# Altium schematic symbol library CATS-Vega.SCHLIB: 64 symbols
Pins are listed as number, name and electrical type; pins without a type are passive.

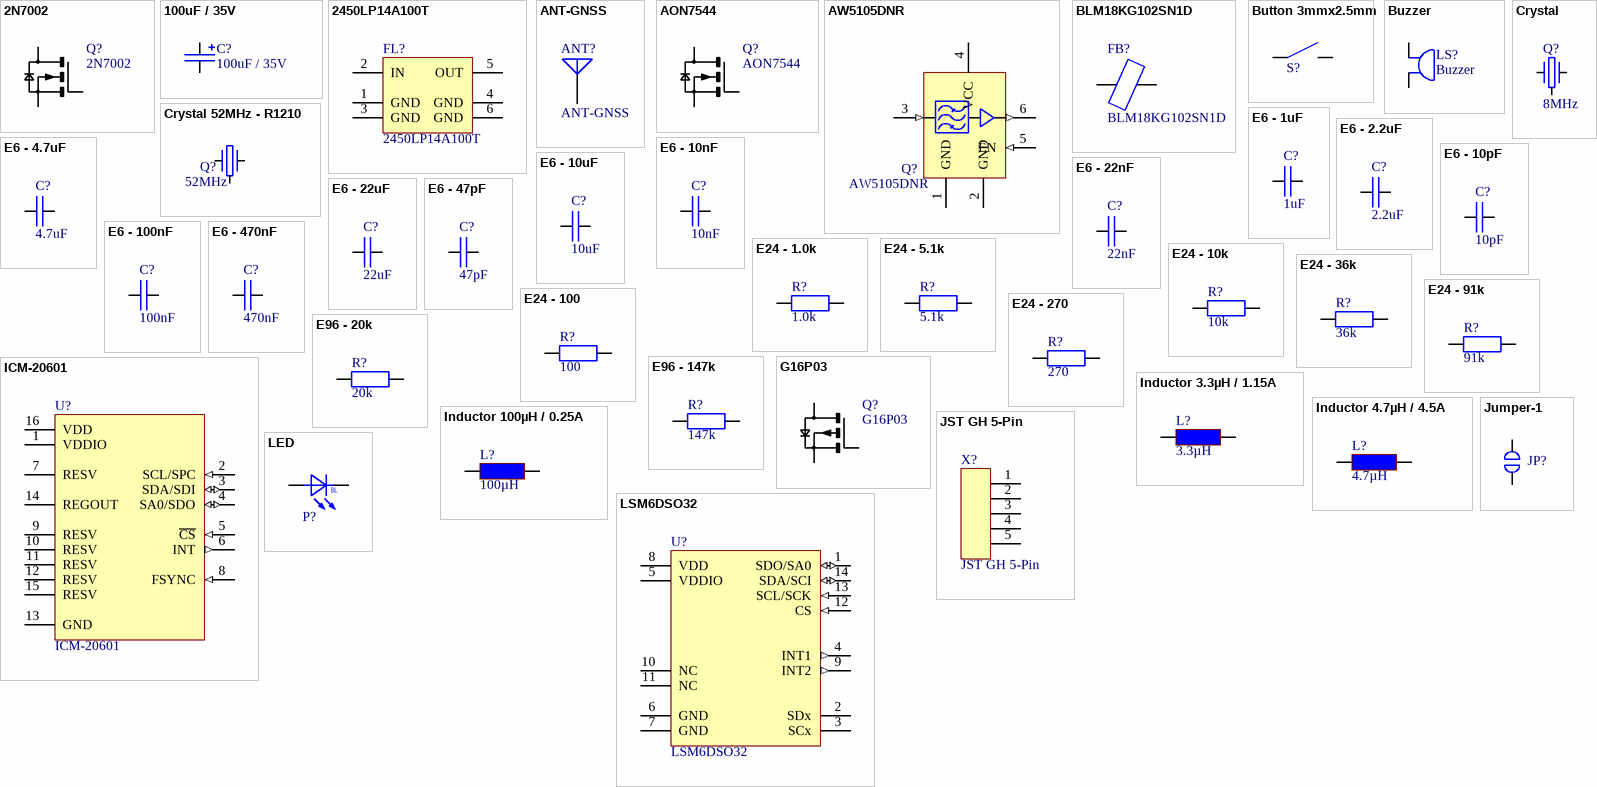
[diagram p0: symbols 2N7002 to LSM6DSO32]

## 2N7002
designator Q?
MOSFET N-Channel 20V / 115mA; Item Description: N-Channel MOSFET; Digikey: 2N7002NCT-ND; Price: 0.32; ComponentLink1Description: Datasheet; ComponentLink1URL: https://www.onsemi.com/pub/Collateral/NDS7002A-D.PDF; JLC: C15127
footprint SMD MOSFET SOT-23
pins: D, G, S
2 alternate drawings of the same symbol

## 100uF / 35V
designator C?
7.7mm 6.3mm 50V 47uF 2000hrs 105℃ -55℃~+105℃ SMD,6.3x7.7mm Aluminum Electrolytic Capacitors - SMD ROHS; ComponentLink1Description: Datasheet; ComponentLink1URL: https://datasheet.lcsc.com/lcsc/1809301215_Nichicon-UWT1V101MCL1GS_C125975.pdf; JLC: C176666
footprint SMD Elko 6.3x7.7
pins: M -, P +

## 2450LP14A100T
designator FL?
2.45GHz Center Frequency Low Pass RF Filter (Radio Frequency) 100MHz Bandwidth 0.5dB 0603 (1608 Metric), 6 PC Pad; ComponentLink1Description: Datasheet; ComponentLink1URL: https://www.johansontechnology.com/datasheets/2450LP14A100/2450LP14A100.pdf; Digikey: 712-1129-2-ND
footprint SMD Filter 2450LP14A100T
pins: 1 GND, 2 IN, 3 GND, 4 GND, 5 OUT, 6 GND

## ANT-GNSS
designator ANT?
1.575GHz GPS Ceramic Patch RF Antenna 1.573GHz ~ 1.577GHz 3.3dBic Pin Adhesive; ComponentLink1Description: Datasheet; ComponentLink1URL: https://abracon.com/patchantenna/APAE1575R1820ABDC1-T.pdf; Digikey: 535-11944-ND
footprint THT Antenna GNSS 18x18
pins: 1

## AON7544
designator Q?
N-Channel 30V 30A Surface Mount 8-DFN (3x3); ComponentLink1Description: Datasheet; ComponentLink1URL: https://datasheet.lcsc.com/lcsc/1912111437_Alpha---Omega-Semicon-AON7544_C315567.pdf; JLC: C315567
footprint SMD MOSFET DFN 3x3 EP
pins: D, G, S

## AW5105DNR
designator Q?
BDS/GPS/GNSS INTEGRATED FRONT-END MODULE WITH / LOW NOISE AMPLIFIER AND FILTER; ComponentLink1Description: Datasheet; ComponentLink1URL: https://datasheet.lcsc.com/lcsc/2008041805_AWINIC-Shanghai-Awinic-Tech-AW5105DNR_C506193.pdf; JLC: C506193
footprint SMD LNA AW5105DNR
pins: 1 GND, 2 GND, 3 (in), 4 VCC, 5 EN (in), 6 EN (out)

## BLM18KG102SN1D
designator FB?
1 kOhms @ 100MHz 1 Power Line Ferrite Bead 0603 (1608 Metric) 1A 200mOhm; ComponentLink1Description: Datasheet; ComponentLink1URL: https://www.murata.com/en-us/products/productdata/8796738650142/ENFA0003.pdf; Digikey: 490-17349-1-ND; JLC: C42102
footprint SMD Ferrite Bead 0603
pins: 1, 2

## Button 3mmx2.5mm
designator S?, comment SMD-Button  (value not drawn)
Button SPST; JLC: C128937; Digikey: SW1020TR-ND
footprint SMD Button 2.5x3x1.2 (SMD_LED_RED)
pins: 1, 2

## Buzzer
designator LS?
Buzzers Indicator, Internally Driven Piezo 12V 10mA 3kHz 100dB @ 12V, 10cm Through Hole PC Pins; Digikey: 2104-IP303012-1-ND; ComponentLink1Description: Datasheet; ComponentLink1URL: https://dbunlimitedco.com/images/product_images/2D-Drawings/IP303012-1.pdf
footprint THT BUZZER IP303012
footprint SMD BUZZER CMT-8504
pins: 1, 2

## Crystal
designator Q?, comment 8MHz
SMD Crystal Resonators 8MHz ±10ppm SMD,3.2x2.5mm; Digikey: 535-15255-1-ND; JLC: C2682775
footprint SMD Crystal 3.2X2.5X0.8 (SMD_LED_RED)
pins: 1, 2, 3 (power)
2 alternate drawings of the same symbol

## Crystal 52MHz - R1210
designator Q?, comment 52MHz
52 MHz ±7ppm Crystal 5pF 100 Ohms 4-SMD, No Lead; ComponentLink1Description: Datasheet; ComponentLink1URL: https://www.diodes.com/assets/Datasheets/FL.pdf; Digikey: 2151-R1210-52.000-5-F-0710-TR-ND
footprint SMD Crystal 1.2X1.0X0.35 (SMD_LED_RED)
pins: 1, 2, 3 (power)

## E6 - 1uF
designator C?, comment 1uF
SMD Ceramic Capacitor E6; Unit Price: 0.01; Number: -; Supplier: -; JLC: C52923
footprint SMD Keramikkondensator 0402
footprint SMD Keramikkondensator 0603
footprint SMD Keramikkondensator 0805
footprint SMD Keramikkondensator 1206
footprint SMD Keramikkondensator 1210 (Chip Resistor; Body 3.2 x 1.6 mm (LxW typ))
footprint SMD Keramikkondensator 1812
footprint SMD Keramikkondensator 2211
footprint SMD Keramikkondensator 2220
footprint SMD Keramikkondesnator 2220
pins: 1, 2
1 alternate drawing of the same symbol

## E6 - 2.2uF
designator C?, comment 2.2uF
SMD Ceramic Capacitor E6; Unit Price: 0.01; Number: -; Supplier: -; JLC: C12530
footprint SMD Keramikkondensator 0402
footprint SMD Keramikkondensator 0603
footprint SMD Keramikkondensator 0805
footprint SMD Keramikkondensator 1206
footprint SMD Keramikkondensator 1210 (Chip Resistor; Body 3.2 x 1.6 mm (LxW typ))
footprint SMD Keramikkondensator 1812
footprint SMD Keramikkondensator 2211
footprint SMD Keramikkondensator 2220
footprint SMD Keramikkondesnator 2220
pins: 1, 2
1 alternate drawing of the same symbol

## E6 - 4.7uF
designator C?, comment 4.7uF
SMD Ceramic Capacitor E6; Unit Price: 0.01; Number: -; Supplier: -; JLC: C23733
footprint SMD Keramikkondensator 0402
footprint SMD Keramikkondensator 0603
footprint SMD Keramikkondensator 0805
footprint SMD Keramikkondensator 1206
footprint SMD Keramikkondensator 1210 (Chip Resistor; Body 3.2 x 1.6 mm (LxW typ))
footprint SMD Keramikkondensator 1812
footprint SMD Keramikkondensator 2211
footprint SMD Keramikkondensator 2220
footprint SMD Keramikkondesnator 2220
pins: 1, 2
1 alternate drawing of the same symbol

## E6 - 10nF
designator C?, comment 10nF
SMD Ceramic Capacitor E6; Unit Price: 0.01; Number: -; Supplier: -; JLC: C15195
footprint SMD Keramikkondensator 0402
footprint SMD Keramikkondensator 0603
footprint SMD Keramikkondensator 0805
footprint SMD Keramikkondensator 1206
footprint SMD Keramikkondensator 1210 (Chip Resistor; Body 3.2 x 1.6 mm (LxW typ))
footprint SMD Keramikkondensator 1812
footprint SMD Keramikkondensator 2211
footprint SMD Keramikkondensator 2220
footprint SMD Keramikkondesnator 2220
pins: 1, 2
1 alternate drawing of the same symbol

## E6 - 10pF
designator C?, comment 10pF
SMD Ceramic Capacitor E6; Unit Price: 0.01; Number: -; Supplier: -; JLC: C32949
footprint SMD Keramikkondensator 0402
footprint SMD Keramikkondensator 0603
footprint SMD Keramikkondensator 0805
footprint SMD Keramikkondensator 1206
footprint SMD Keramikkondensator 1210 (Chip Resistor; Body 3.2 x 1.6 mm (LxW typ))
footprint SMD Keramikkondensator 1812
footprint SMD Keramikkondensator 2211
footprint SMD Keramikkondensator 2220
footprint SMD Keramikkondesnator 2220
pins: 1, 2
1 alternate drawing of the same symbol

## E6 - 10uF
designator C?, comment 10uF
SMD Ceramic Capacitor E6; Unit Price: 0.01; Number: -; Supplier: -; JLC: C96446
footprint SMD Keramikkondensator 0402
footprint SMD Keramikkondensator 0603
footprint SMD Keramikkondensator 0805
footprint SMD Keramikkondensator 1206
footprint SMD Keramikkondensator 1210 (Chip Resistor; Body 3.2 x 1.6 mm (LxW typ))
footprint SMD Keramikkondensator 1812
footprint SMD Keramikkondensator 2211
footprint SMD Keramikkondensator 2220
footprint SMD Keramikkondesnator 2220
pins: 1, 2
1 alternate drawing of the same symbol

## E6 - 22nF
designator C?, comment 22nF
SMD Ceramic Capacitor E6; Unit Price: 0.01; Number: -; Supplier: -; JLC: C1532
footprint SMD Keramikkondensator 0402
footprint SMD Keramikkondensator 0603
footprint SMD Keramikkondensator 0805
footprint SMD Keramikkondensator 1206
footprint SMD Keramikkondensator 1210 (Chip Resistor; Body 3.2 x 1.6 mm (LxW typ))
footprint SMD Keramikkondensator 1812
footprint SMD Keramikkondensator 2211
footprint SMD Keramikkondensator 2220
footprint SMD Keramikkondesnator 2220
pins: 1, 2
1 alternate drawing of the same symbol

## E6 - 22uF
designator C?, comment 22uF
SMD Ceramic Capacitor E6; Unit Price: 0.01; Number: -; Supplier: -; JLC: C45783
footprint SMD Keramikkondensator 0402
footprint SMD Keramikkondensator 0603
footprint SMD Keramikkondensator 0805
footprint SMD Keramikkondensator 1206
footprint SMD Keramikkondensator 1210 (Chip Resistor; Body 3.2 x 1.6 mm (LxW typ))
footprint SMD Keramikkondensator 1812
footprint SMD Keramikkondensator 2211
footprint SMD Keramikkondensator 2220
footprint SMD Keramikkondesnator 2220
pins: 1, 2
1 alternate drawing of the same symbol

## E6 - 47pF
designator C?, comment 47pF
SMD Ceramic Capacitor E6; Unit Price: 0.01; Number: -; Supplier: -; JLC: C1567
footprint SMD Keramikkondensator 0402
footprint SMD Keramikkondensator 0603
footprint SMD Keramikkondensator 0805
footprint SMD Keramikkondensator 1206
footprint SMD Keramikkondensator 1210 (Chip Resistor; Body 3.2 x 1.6 mm (LxW typ))
footprint SMD Keramikkondensator 1812
footprint SMD Keramikkondensator 2211
footprint SMD Keramikkondensator 2220
footprint SMD Keramikkondesnator 2220
pins: 1, 2
1 alternate drawing of the same symbol

## E6 - 100nF
designator C?, comment 100nF
SMD Ceramic Capacitor E6; Unit Price: 0.01; Number: -; Supplier: -; JLC: C307331
footprint SMD Keramikkondensator 0402
footprint SMD Keramikkondensator 0603
footprint SMD Keramikkondensator 0805
footprint SMD Keramikkondensator 1206
footprint SMD Keramikkondensator 1210 (Chip Resistor; Body 3.2 x 1.6 mm (LxW typ))
footprint SMD Keramikkondensator 1812
footprint SMD Keramikkondensator 2211
footprint SMD Keramikkondensator 2220
footprint SMD Keramikkondesnator 2220
pins: 1, 2
1 alternate drawing of the same symbol

## E6 - 470nF
designator C?, comment 470nF
SMD Ceramic Capacitor E6; Unit Price: 0.01; Number: -; Supplier: -; JLC: C47339
footprint SMD Keramikkondensator 0402
footprint SMD Keramikkondensator 0603
footprint SMD Keramikkondensator 0805
footprint SMD Keramikkondensator 1206
footprint SMD Keramikkondensator 1210 (Chip Resistor; Body 3.2 x 1.6 mm (LxW typ))
footprint SMD Keramikkondensator 1812
footprint SMD Keramikkondensator 2211
footprint SMD Keramikkondensator 2220
footprint SMD Keramikkondesnator 2220
pins: 1, 2
1 alternate drawing of the same symbol

## E24 - 1.0k
designator R?, comment 1.0k
SMD Chip Resistor E24; Unit Price: 0.01; Number: -; Supplier: -; JLC: C11702
footprint SMD Widerstand 0402
footprint SMD Widerstand 0603
footprint SMD Widerstand 0805
footprint SMD Widerstand 1206
pins: 1, 2
1 alternate drawing of the same symbol

## E24 - 5.1k
designator R?, comment 5.1k
SMD Chip Resistor E24; Unit Price: 0.01; Number: -; Supplier: -; JLC: C25905
footprint SMD Widerstand 0402
footprint SMD Widerstand 0603
footprint SMD Widerstand 0805
footprint SMD Widerstand 1206
pins: 1, 2
1 alternate drawing of the same symbol

## E24 - 10k
designator R?, comment 10k
SMD Chip Resistor E24; Unit Price: 0.01; Number: -; Supplier: -; JLC: C25744
footprint SMD Widerstand 0402
footprint SMD Widerstand 0603
footprint SMD Widerstand 0805
footprint SMD Widerstand 1206
pins: 1, 2
1 alternate drawing of the same symbol

## E24 - 36k
designator R?, comment 36k
SMD Chip Resistor E24; Unit Price: 0.01; Number: -; Supplier: -; JLC: C43676
footprint SMD Widerstand 0402
footprint SMD Widerstand 0603
footprint SMD Widerstand 0805
footprint SMD Widerstand 1206
pins: 1, 2
1 alternate drawing of the same symbol

## E24 - 91k
designator R?, comment 91k
SMD Chip Resistor E24; Unit Price: 0.01; Number: -; Supplier: -; JLC: C4147
footprint SMD Widerstand 0402
footprint SMD Widerstand 0603
footprint SMD Widerstand 0805
footprint SMD Widerstand 1206
pins: 1, 2
1 alternate drawing of the same symbol

## E24 - 100
designator R?, comment 100
SMD Chip Resistor E24; Unit Price: 0.01; Number: -; Supplier: -; JLC: C25076
footprint SMD Widerstand 0402
footprint SMD Widerstand 0603
footprint SMD Widerstand 0805
footprint SMD Widerstand 1206
pins: 1, 2
1 alternate drawing of the same symbol

## E24 - 270
designator R?, comment 270
SMD Chip Resistor E24; Unit Price: 0.01; Number: -; Supplier: -; JLC: C25099
footprint SMD Widerstand 0402
footprint SMD Widerstand 0603
footprint SMD Widerstand 0805
footprint SMD Widerstand 1206
pins: 1, 2
1 alternate drawing of the same symbol

## E96 - 20k
designator R?, comment 20k
SMD Chip Resistor E96; Unit Price: 0.01; Number: -; Supplier: -; JLC: C25765
footprint SMD Widerstand 0402
footprint SMD Widerstand 0603
footprint SMD Widerstand 0805
footprint SMD Widerstand 1206
pins: 1, 2
1 alternate drawing of the same symbol

## E96 - 147k
designator R?, comment 147k
SMD Chip Resistor E96; Unit Price: 0.01; Number: -; Supplier: -; JLC: C64171
footprint SMD Widerstand 0402
footprint SMD Widerstand 0603
footprint SMD Widerstand 0805
footprint SMD Widerstand 1206
pins: 1, 2
1 alternate drawing of the same symbol

## G16P03
designator Q?
30V 16A 35W; ComponentLink1Description: Datasheet; ComponentLink1URL: https://datasheet.lcsc.com/lcsc/1809251724_GOFORD-G16P03_C193982.pdf; JLC: C193982
footprint SMD MOSFET DFN 3x3 EP
pins: D, G, S

## ICM-20601
designator U?
World’s First Wide-Range 6-Axis MotionTracking Device for High Speed Applications /; ComponentLink1Description: Datasheet; ComponentLink1URL: https://www.invensense.com/wp-content/uploads/2015/12/DS-000184-ICM-20600-v1.0.pdf; Digikey: 1428-1058-1-ND
footprint SMD IC LGA-16 5/3
pins: 1 VDDIO (power), 2 SCL/SPC (in), 3 SDA/SDI (io), 4 SA0/SDO (io), 5 ~{CS} (in), 6 INT (out), 7 RESV, 8 FSYNC (in), 9 RESV, 10 RESV, 11 RESV, 12 RESV, 13 GND (power), 14 REGOUT (power), 15 RESV, 16 VDD (power)

## Inductor 3.3µH / 1.15A
designator L?, comment 3.3µH
1.15A 3.3uH ±20% 144mΩ SMD Power Inductors; Digikey: 732-5680-2-ND; ComponentLink1Description: Datasheet; ComponentLink1URL: https://datasheet.lcsc.com/lcsc/2110081330_Sunlord-SPH252012H3R3MT_C98379.pdf; JLC: C98379
footprint SMD Inductor 2x2.5x1.2
pins: 1, 2

## Inductor 4.7µH / 4.5A
designator L?, comment 4.7µH
4.7 µH Shielded Molded Inductor 4.5 A 60mOhm Max Nonstandard; Digikey: 541-1238-2-ND; ComponentLink1Description: Datasheet; ComponentLink1URL: https://www.vishay.com/docs/34260/ihlp2020cz11.pdf; JLC: C408410
footprint SMD Inductor 5.5x5.2x3
pins: 1, 2

## Inductor 100µH / 0.25A
designator L?, comment 100µH
0.25A 100µH ±20% 144mΩ SMD Power Inductors; ComponentLink1Description: Datasheet; ComponentLink1URL: https://datasheet.lcsc.com/lcsc/2110081330_Sunlord-SPH252012H3R3MT_C98379.pdf; JLC: C76822
footprint SMD Inductor 1812
pins: 1, 2

## JST GH 5-Pin
designator X?
Connector Header Surface Mount, Right Angle 4 position 0.049" (1.25mm); ComponentLink1Description: Datasheet; ComponentLink1URL: https://www.jst-mfg.com/product/pdf/eng/eGH.pdf
footprint SMD Connector JST GH-5
pins: 1, 2, 3, 4, 5

## Jumper-1
designator JP?, comment Jumper  (value not drawn)  (no BOM)
Single Position Jumper
footprint THT Jumper
footprint SMD Solder Jumper 1x2mm (SOT-223/SC-73; 4 Leads; Body 6.7 x 7.3 mm, inc. leads (LxW max))
pins: 1, 2

## LED
designator P?  (value not drawn)
Color LED
footprint SMD LED 0603 (SMD_LED_RED)
pins: A, K
3 alternate drawings of the same symbol
text: BL

## LSM6DSO32
designator U?
iNEMO inertial module / ±4/±8/±16/±32 g / ±125/±250/±500/±1000/±2000 dps; ComponentLink1Description: Datasheet; ComponentLink1URL: https://www.st.com/resource/en/datasheet/lsm6dso32.pdf; Digikey: 497-LSM6DSO32CT-ND; Mouser: 511-LSM6DSO32TR; Farnell: 3527117
footprint SMD IC LGA-14
pins: 1 SDO/SA0 (io), 2 SDx, 3 SCx, 4 INT1 (out), 5 VDDIO, 6 GND, 7 GND, 8 VDD, 9 INT2 (out), 10 NC, 11 NC, 12 CS (in), 13 SCL/SCK (in), 14 SDA/SCI (io)

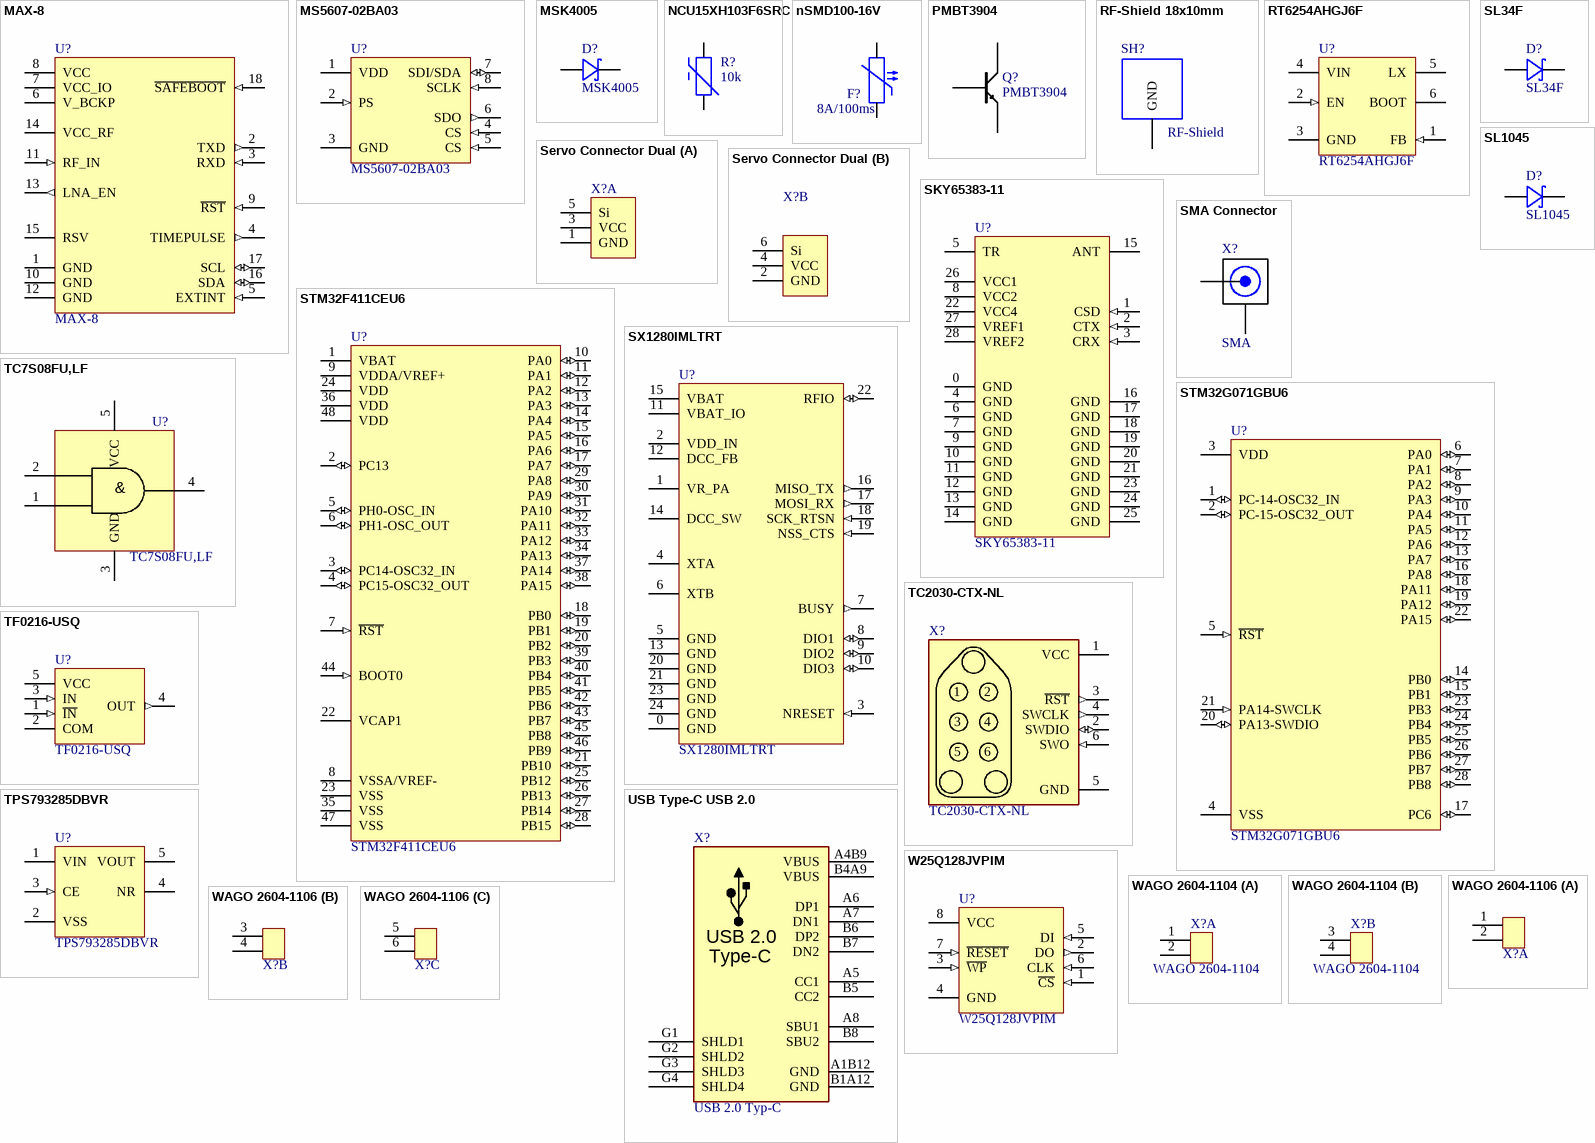
[diagram p1: symbols MAX-8 to WAGO 2604-1106]

## MAX-8
designator U?
u-blox 8 GNSS modules; ComponentLink1Description: Datasheet; ComponentLink1URL: https://www.u-blox.com/sites/default/files/MAX-8_DataSheet_%28UBX-16000093%29.pdf; JLC: C90770; Digikey: 672-MAX-8C-0TR-ND
footprint SMD MAX-8
pins: 1 GND, 2 TXD (out), 3 RXD (in), 4 TIMEPULSE (out), 5 EXTINT (in), 6 V_BCKP, 7 VCC_IO, 8 VCC, 9 ~{RST} (in), 10 GND, 11 RF_IN (in), 12 GND, 13 LNA_EN (out), 14 VCC_RF, 15 RSV, 16 SDA (io), 17 SCL (io), 18 ~{SAFEBOOT} (in)

## MS5607-02BA03
designator U?
Barometric Pressure Sensor, with stainless / steel cap; ComponentLink1Description: Datasheet; ComponentLink1URL: https://www.te.com/commerce/DocumentDelivery/DDEController?Action=srchrtrv&DocNm=MS5607-02BA03&DocType=Data+Sheet&DocLang=English; Digikey: 223-1198-1-ND
footprint SMD IC BARO MS5607
pins: 1 VDD, 2 PS (in), 3 GND, 4 CS (in), 5 CS (in), 6 SDO (out), 7 SDI/SDA (io), 8 SCLK (in)

## MSK4005
designator D?
SOD-523 Schottky Barrier Diode; ComponentLink1Description: Datasheet; ComponentLink1URL: https://datasheet.lcsc.com/lcsc/1912111437_Shikues-MSK4005_C345957.pdf; JLC: C345957
footprint SMD Diode SOD-523 (SM LED; 2 Flat Leads)
pins: A, K

## NCU15XH103F6SRC
designator R?, comment 10k
10kΩ -40℃~+125℃ 3455K 0.1mA 3434K ±1% 3380K ±1% 0402 NTC Thermistors; ComponentLink1Description: Datasheet; ComponentLink1URL: https://datasheet.lcsc.com/lcsc/1912111437_Murata-Electronics-NCU15XH103F6SRC_C333993.pdf; JLC: C333993
footprint SMD Ferrite Bead 0402
pins: 1, 2

## nSMD100-16V
designator F?, comment 8A/100ms
16V 1A 100A 1.8A 1206 Resettable; JLC: C70082; ComponentLink1Description: Datasheet; ComponentLink1URL: https://datasheet.lcsc.com/lcsc/1810261625_TECHFUSE-nSMD100-16V_C70082.pdf
footprint SMD PPTC-Fuse 1206
pins: 1, 2

## PMBT3904
designator Q?
40 V, 200 mA NPN switching transisto; ComponentLink1Description: Datasheet; ComponentLink1URL: https://datasheet.lcsc.com/lcsc/2105201004_Nexperia-PMBT3904-215_C8667.pdf; JLC: C8667
footprint SMD Transistor SOT-23
pins: B, C, E

## RF-Shield 18x10mm
designator SH?, comment RF-Shield
RF Shield Shield, 1-Piece 0.413" (10.50mm) X 0.720" (18.30mm) Non-Vented Solder; ComponentLink1Description: Datasheet; ComponentLink1URL: https://www.masach.com/media/catalog/product/file/MS183-10.pdf; Digikey: 2333-MS183-10S-ND
footprint SMD Shield MS183-10
pins: 1 GND

## RT6254AHGJ6F
designator U?
Buck Switching Regulator IC Positive Adjustable 0.6V 1 Output 4A SOT-23-6 Thin, TSOT-23-6; ComponentLink1Description: Datasheet; ComponentLink1URL: https://www.richtek.com/assets/product_file/RT6254A=RT6254B/DS6254AB-02.pdf; Digikey: RT6255AHGJ6FCT-ND
footprint SMD IC TSOT-23-6 (SOT-223/SC-73; 4 Leads; Body 6.7 x 7.3 mm, inc. leads (LxW max))
pins: 1 FB (in), 2 EN (in), 3 GND, 4 VIN, 5 LX, 6 BOOT

## Servo Connector Dual
designator X?, comment Servo Connector  (value not drawn)
6 Pin header for PWM servos
footprint THT Stiftleiste 6-Pol (2x3) 90°
part A pins: 1 GND, 3 VCC, 5 Si
part B pins: 2 GND, 4 VCC, 6 Si

## SKY65383-11
designator U?
2400 to 2483 MHz Transmit/Receive / Front-End Module +30dBm; ComponentLink1Description: Datasheet; ComponentLink1URL: https://www.skyworksinc.com/-/media/SkyWorks/Documents/Products/2901-3000/SKY65383-11_202668G.pdf; Digikey: 863-1798-1-ND
footprint SMD IC 28-MCM
pins: 0 GND, 1 CSD (in), 2 CTX (in), 3 CRX (in), 4 GND, 5 TR, 6 GND, 7 GND, 8 VCC2, 9 GND, 10 GND, 11 GND, 12 GND, 13 GND, 14 GND, 15 ANT, 16 GND, 17 GND, 18 GND, 19 GND, 20 GND, 21 GND, 22 VCC4, 23 GND, 24 GND, 25 GND, 26 VCC1, 27 VREF1, 28 VREF2

## SL34F
designator D?
3A SMAF Schottky Barrier Diode; JLC: C60396; ComponentLink1Description: Datasheet; ComponentLink1URL: https://datasheet.lcsc.com/lcsc/1809211527_MDD-Microdiode-Electronics--SL34F_C113938.pdf
footprint SMD Diode SMAF
pins: A, K

## SL1045
designator D?
45V 470mV@10A 10A TO-277 Schottky Barrier Diodes; ComponentLink1Description: Datasheet; ComponentLink1URL: https://datasheet.lcsc.com/lcsc/1810252210_MDD-Microdiode-Electronics--SL1045_C65021.pdf; JLC: C113945
footprint SMD Diode TO-277
pins: A, K

## SMA Connector
designator X?, comment SMA
Female SMA Connector THT; Digikey: 931-1361-ND
footprint THT Buchse SMA Female
pins: 1 RF, 2 RF

## STM32F411CEU6
designator U?
ARM® Cortex®-M4 series Microcontroller IC 32-Bit 100MHz 512KB (512K x 8) FLASH 48-UFQFPN (7x7); Digikey: 497-14907-ND; JLC: C60420; ComponentLink1Description: Datasheet; ComponentLink1URL: https://datasheet.lcsc.com/lcsc/1809291612_STMicroelectronics-STM32F411CEU6_C60420.pdf
footprint SMD IC QFN-48 (QFN, 48-Leads, Body 7x7mm, Pitch 0.5mm, IPC Medium Density)
pins: 1 VBAT, 2 PC13 (io), 3 PC14-OSC32_IN (io), 4 PC15-OSC32_OUT (io), 5 PH0-OSC_IN (io), 6 PH1-OSC_OUT (io), 7 ~{RST} (in), 8 VSSA/VREF-, 9 VDDA/VREF+, 10 PA0 (io), 11 PA1 (io), 12 PA2 (io), 13 PA3 (io), 14 PA4 (io), 15 PA5 (io), 16 PA6 (io), 17 PA7 (io), 18 PB0 (io), 19 PB1 (io), 20 PB2 (io), 21 PB10 (io), 22 VCAP1, 23 VSS, 24 VDD, 25 PB12 (io), 26 PB13 (io), 27 PB14 (io), 28 PB15 (io), 29 PA8 (io), 30 PA9 (io), 31 PA10 (io), 32 PA11 (io), 33 PA12 (io), 34 PA13 (io), 35 VSS, 36 VDD, 37 PA14 (io), 38 PA15 (io), 39 PB3 (io), 40 PB4 (io), 41 PB5 (io), 42 PB6 (io), 43 PB7 (io), 44 BOOT0 (in), 45 PB8 (io), 46 PB9 (io), 47 VSS, 48 VDD

## STM32G071GBU6
designator U?
ARM® Cortex®-M0+ series Microcontroller IC 32-Bit 64MHz 128KB (128K x 8) FLASH 28-UFQFPN (4x4); Digikey: 497-18343-ND; JLC: C529347; ComponentLink1Description: Datasheet; ComponentLink1URL: https://media.digikey.com/pdf/Data%20Sheets/ST%20Microelectronics%20PDFS/STM32G071_Rev1_DS.pdf
footprint SMD IC QFN-28 4x4 (QFN, 28-Leads)
pins: 1 PC-14-OSC32_IN (io), 2 PC-15-OSC32_OUT (io), 3 VDD, 4 VSS, 5 ~{RST} (in), 6 PA0 (io), 7 PA1 (io), 8 PA2 (io), 9 PA3 (io), 10 PA4 (io), 11 PA5 (io), 12 PA6 (io), 13 PA7 (io), 14 PB0 (io), 15 PB1 (io), 16 PA8 (io), 17 PC6 (io), 18 PA11 (io), 19 PA12 (io), 20 PA13-SWDIO (io), 21 PA14-SWCLK (in), 22 PA15 (io), 23 PB3 (io), 24 PB4 (io), 25 PB5 (io), 26 PB6 (io), 27 PB7 (io), 28 PB8 (io)

## SX1280IMLTRT
designator U?
Long Range, Low Power, 2.4 GHz / Transceiver with Ranging Capability; ComponentLink1Description: Datasheet; ComponentLink1URL: https://media.digikey.com/pdf/Data%20Sheets/Semtech%20PDFs/SX1280-81_Rev3.2_Mar2020.pdf; Digikey: SX1280IMLTRTCT-ND; JLC: C125969
footprint SMD IC QFN-24 (QFN, 24-Leads, Body 4x4mm, Pitch 0.5mm, Thermal Pad 2.68x2.68mm, IPC Medium Density)
pins: 0 GND, 1 VR_PA, 2 VDD_IN, 3 NRESET (in), 4 XTA, 5 GND, 6 XTB, 7 BUSY (out), 8 DIO1 (io), 9 DIO2 (io), 10 DIO3 (io), 11 VBAT_IO, 12 DCC_FB, 13 GND, 14 DCC_SW, 15 VBAT, 16 MISO_TX (out), 17 MOSI_RX (out), 18 SCK_RTSN (in), 19 NSS_CTS (in), 20 GND, 21 GND, 22 RFIO (io), 23 GND, 24 GND

## TC7S08FU,LF
designator U?
AND Gate SSOP5-P-0.65A; ComponentLink1Description: Datasheet; ComponentLink1URL: https://datasheet.lcsc.com/lcsc/1811082031_TOSHIBA-TC7S08FU-LF_C146362.pdf; JLC: C113521
footprint SMD IC SSOP5-P-0.65A (SOT353-1)
pins: 1 IN, 2 IN, 3 GND, 4 OUT, 5 VCC
text: &

## TC2030-CTX-NL
designator X?  (no BOM)
Tag-Connect for ARM-Cortex (6-Pin)
footprint SMD Connector TC2030 w/ holes
footprint SMD Connector TC2030
pins: 1 VCC (power), 2 SWDIO (io), 3 ~{RST} (out), 4 SWCLK (out), 5 GND (power), 6 SWO (in)

## TF0216-USQ
designator U?
SOT-23-5L Gate Drive IC; JLC: C2683769; ComponentLink1Description: Datasheet; ComponentLink1URL: https://datasheet.lcsc.com/lcsc/2106070334_TFSS-TF0216-USQ_C2683769.pdf
footprint SMD IC SOT-23-5
pins: 1 ~{IN} (in), 2 COM, 3 IN (in), 4 OUT (out), 5 VCC

## TPS793285DBVR
designator U?
Linear Voltage Regulator IC Positive Fixed 1 Output  200mA SOT-23-5 2.85V; ComponentLink1Description: Datasheet; ComponentLink1URL: https://media.digikey.com/pdf/Data%20Sheets/Texas%20Instruments%20PDFs/TPS793_Rev2015.pdf; Digikey: 296-12157-1-ND
footprint SMD IC SOT-23-5
pins: 1 VIN, 2 VSS, 3 CE (in), 4 NR, 5 VOUT

## USB Type-C USB 2.0
designator X?, comment USB 2.0 Typ-C
Typ-C; aliExpress: 33045191307; Digikey: 2073-USB4105-GF-ACT-ND; Farnell: 3583366; JLC: C167321
footprint THT USB-C Socket (A40-00119)
pins: A1B12 GND, A4B9 VBUS, A5 CC1, A6 DP1, A7 DN1, A8 SBU1, B1A12 GND, B4A9 VBUS, B5 CC2, B6 DP2, B7 DN2, B8 SBU2, G1 SHLD1, G2 SHLD2, G3 SHLD3, G4 SHLD4
text: USB 2.0; Type-C

## W25Q128JVPIM
designator U?
3V 128M-BIT / SERIAL FLASH MEMORY WITH / DUAL/QUAD SPI & QPI & DTR; ComponentLink1Description: Datasheet; ComponentLink1URL: https://www.winbond.com/resource-files/w25q128jv_dtr%20revc%2003272018%20plus.pdf; Digikey: W25Q128JVPIM-ND; JLC: C190862
footprint SMD IC WSON-8 (6x5)
pins: 1 ~{CS} (in), 2 DO (out), 3 ~{WP} (in), 4 GND (power), 5 DI (in), 6 CLK (in), 7 ~{RESET} (in), 8 VCC (power)

## WAGO 2604-1104
designator X?
PCB terminal blocks with levers and Push-in CAGE CLAMP® connection; ComponentLink1Description: Datasheet; ComponentLink1URL: https://www.wago.com/us/pcb-interconnect/pcb-terminal-block/p/2604-1106
footprint THT PCB Terminal Wago 2604-1104
part A pins: 1, 2
part B pins: 3, 4

## WAGO 2604-1106
designator X?  (value not drawn)
PCB terminal blocks with levers and Push-in CAGE CLAMP® connection; ComponentLink1Description: Datasheet; ComponentLink1URL: https://www.wago.com/us/pcb-interconnect/pcb-terminal-block/p/2604-1106
footprint THT PCB Terminal Wago 2604-1106
part A pins: 1, 2
part B pins: 3, 4
part C pins: 5, 6